# EAGLE library part MPU-6000 (library tmxk)
Invensense MPU-6000: 3-axis gyro, 3-axis accel & 9-axis MotionFusion The MPU-60X0 Motion Processing Unit (MPU?) is the world?s first motion processing solution with integrated 9-axis sensor fusion for handset and tablet applications, game controllers, motion pointer remote controls, and other consumer devices. The MPU-60X0 has an embedded 3-axis MEMS gyroscope, 3-axis MEMS accelerometer and Digital Motion Processor? (DMP) hardware accelerator engine with an auxiliary I 2 C port that interfaces to third party digital sensors, such as magnetometers. Interfacing with a 3-axis magnetometer delivers a complete 9-axis sensor fusion output to the MPU?s primary I 2 C or SPI port. (SPI is available on MPU-6000 only). This combines acceleration and rotational motion plus heading information into a single data stream for the application
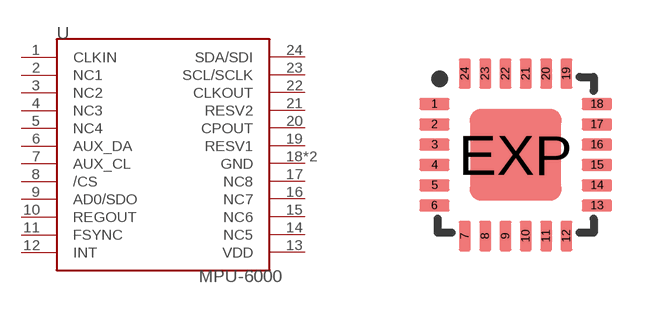
[diagram p35: symbol with the pads of QFN24; footprint QFN24]

Designator prefix U

## MPU-6000  [QFN24]
1  CLKIN
2  NC1
3  NC2
4  NC3
5  NC4
6  AUX_DA
7  AUX_CL
8  /CS
9  AD0/SDO
10  REGOUT
11  FSYNC
12  INT
13  VDD
14  NC5
15  NC6
16  NC7
17  NC8
18  GND
19  RESV1
20  CPOUT
21  RESV2
22  CLKOUT
23  SCL/SCLK
24  SDA/SDI
EXP  GND

## Footprint QFN24 (pad centres in mm)
QFN 4x4 mm Source: http://www.hittite.com/product_info/product_specs/dividersdetectors/hmc394lp4.pdf
smd 0.762 x 0.3: 1 -2.032,1.27; 2 -2.032,0.762; 3 -2.032,0.254; 4 -2.032,-0.254; 5 -2.032,-0.762; 6 -2.032,-1.27; 13 2.032,-1.27; 14 2.032,-0.762; 15 2.032,-0.254; 16 2.032,0.254; 17 2.032,0.762; 18 2.032,1.27
smd 0.3 x 0.762: 7 -1.27,-2.032; 8 -0.762,-2.032; 9 -0.254,-2.032; 10 0.254,-2.032; 11 0.762,-2.032; 12 1.27,-2.032; 19 1.27,2.032; 20 0.762,2.032; 21 0.254,2.032; 22 -0.254,2.032; 23 -0.762,2.032; 24 -1.27,2.032
smd 2.286 x 2.286: EXP 0,0